# Altium integrated library 5p_connector.IntLib: 1 symbol
Pins are listed as number, name and electrical type; pins without a type are passive.

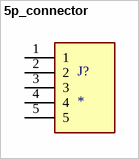
[diagram p0: symbol 5p_connector]

## 5p_connector
designator J?
5P,STRAIGHT,SIDE ENTRY,3.5MM Terminal Block Connector Type: Header Connector System: Wire-to-Board Number of Positions: 5 Centerline (Pitch): .138 in Centerline (Pitch): 3.5 mm Header Wire-to-Board 5 .138 | PCB Terminal Block | Part Number: 1546551-5 | In; MF: TE Connectivity; SnapEDA_Link: https://www.snapeda.com/parts/1546551-5/TE+Connectivity+AMP+Connectors/view-part/?ref=snap; Package: None; Value: *; MP: 1546551-5; EU_RoHS_Compliance: Compliant with Exemptions; Check_prices: https://www.snapeda.com/parts/1546551-5/TE+Connectivity+AMP+Connectors/view-part/?ref=eda
footprint TE_1546551-5
pins: 1, 2, 3, 4, 5